# EAGLE library part TRACKERSłONECZNYLIB_INA219 (library Oskar.Kuchejda)
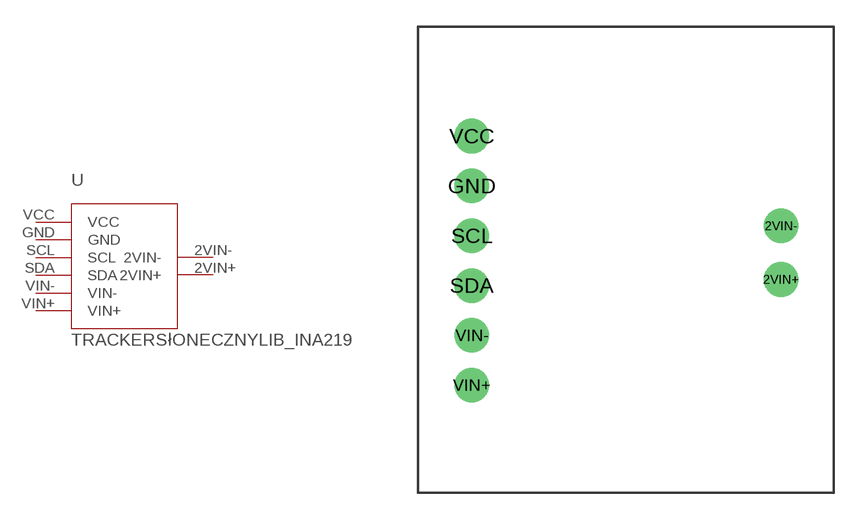
[diagram p1: symbol with the pads of TRACKERSłONECZNYLIB_INA219; footprint TRACKERSłONECZNYLIB_INA219]

Designator prefix -

## TRACKERSłONECZNYLIB_INA219  [TRACKERSłONECZNYLIB_INA219]
2VIN+  2VIN+
2VIN-  2VIN-
GND  GND
SCL  SCL
SDA  SDA
VCC  VCC
VIN+  VIN+
VIN-  VIN-

## Footprint TRACKERSłONECZNYLIB_INA219 (pad centres in mm)
drill 1 pad 1.93: 2VIN+ 20.25,11.9; 2VIN- 20.25,14.89; GND 3,17.12; SCL 3,14.34; SDA 3,11.56; VCC 3,19.9; VIN+ 3,6; VIN- 3,8.78